# EAGLE library part MAPLE-MINI (library Brendan)
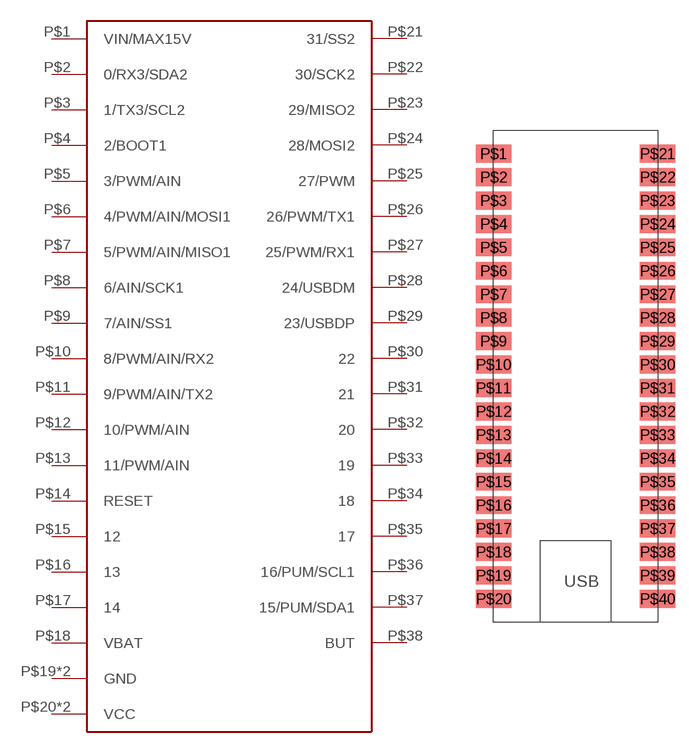
[diagram p2: symbol with the pads of MAPLE-MINI; footprint MAPLE-MINI]

Designator prefix -

## MAPLE-MINI  [MAPLE-MINI]
P$1  VIN/MAX15V
P$2  0/RX3/SDA2
P$3  1/TX3/SCL2
P$4  2/BOOT1
P$5  3/PWM/AIN
P$6  4/PWM/AIN/MOSI1
P$7  5/PWM/AIN/MISO1
P$8  6/AIN/SCK1
P$9  7/AIN/SS1
P$10  8/PWM/AIN/RX2
P$11  9/PWM/AIN/TX2
P$12  10/PWM/AIN
P$13  11/PWM/AIN
P$14  RESET
P$15  12
P$16  13
P$17  14
P$18  VBAT
P$19  GND
P$20  VCC
P$21  31/SS2
P$22  30/SCK2
P$23  29/MISO2
P$24  28/MOSI2
P$25  27/PWM
P$26  26/PWM/TX1
P$27  25/PWM/RX1
P$28  24/USBDM
P$29  23/USBDP
P$30  22
P$31  21
P$32  20
P$33  19
P$34  18
P$35  17
P$36  16/PUM/SCL1
P$37  15/PUM/SDA1
P$38  BUT
P$39  GND
P$40  VCC

## Footprint MAPLE-MINI (pad centres in mm)
smd 3.81 x 1.93: P$1 -8.89,24.13; P$2 -8.89,21.59; P$3 -8.89,19.05; P$4 -8.89,16.51; P$5 -8.89,13.97; P$6 -8.89,11.43; P$7 -8.89,8.89; P$8 -8.89,6.35; P$9 -8.89,3.81; P$10 -8.89,1.27; P$11 -8.89,-1.27; P$12 -8.89,-3.81; P$13 -8.89,-6.35; P$14 -8.89,-8.89; P$15 -8.89,-11.43; P$16 -8.89,-13.97; P$17 -8.89,-16.51; P$18 -8.89,-19.05; P$19 -8.89,-21.59; P$20 -8.89,-24.13; P$21 8.89,24.13; P$22 8.89,21.59; P$23 8.89,19.05; P$24 8.89,16.51; P$25 8.89,13.97; P$26 8.89,11.43; P$27 8.89,8.89; P$28 8.89,6.35; P$29 8.89,3.81; P$30 8.89,1.27; P$31 8.89,-1.27; P$32 8.89,-3.81; P$33 8.89,-6.35; P$34 8.89,-8.89; P$35 8.89,-11.43; P$36 8.89,-13.97; P$37 8.89,-16.51; P$38 8.89,-19.05; P$39 8.89,-21.59; P$40 8.89,-24.13